# Altium schematic symbol library Mezeq_Connectors.SchLib: 39 symbols
Pins are listed as number, name and electrical type; pins without a type are passive.

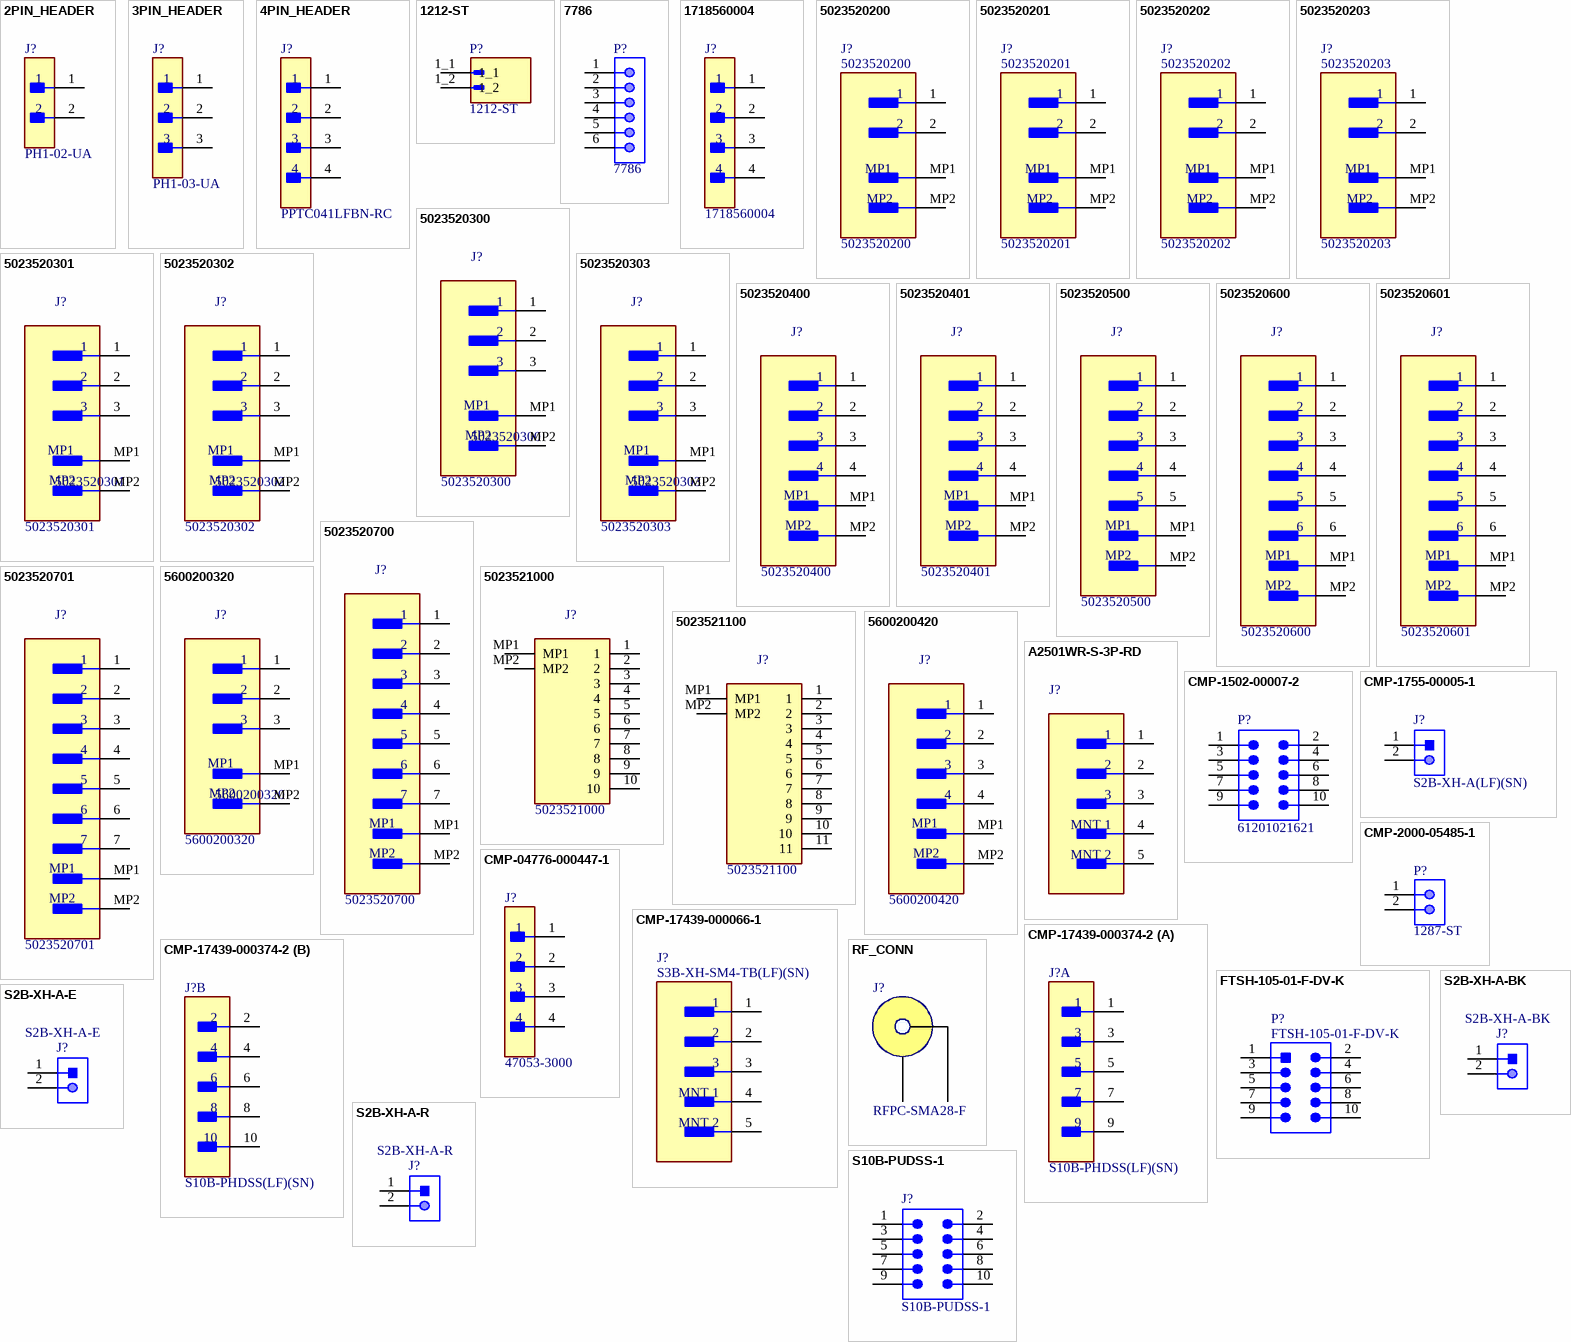
[diagram p0: symbols 2PIN_HEADER to S10B-PUDSS-1]

## 2PIN_HEADER
designator J?  Manufacturer Part Number 1: PH1-02-UA
CONN HEADER VERT 2POS 2.54MM; Manufacturer 1: Adam Tech; Supplier 1: Digikey; Supplier Part Number 1: 2057-PH1-02-UA-ND
footprint CONN_PH1-02-UA_ADM (CONN HEADER VERT 2POS 2.54MM)
pins: 1, 2

## 3PIN_HEADER
designator J?  Manufacturer Part Number 1: PH1-03-UA
CONN HEADER VERT 3POS 2.54MM; Manufacturer 1: Adam Tech; Supplier 1: Digikey; Supplier Part Number 1: 2057-PH1-03-UA-ND
footprint CONN_PH1-03-UA_ADM (CONN HEADER VERT 3POS 2.54MM)
pins: 1, 2, 3

## 4PIN_HEADER
designator J?  Manufacturer Part Number 1: PPTC041LFBN-RC
CONN HDR 4POS 0.1 TIN PCB 2.54MM FEMALE; Manufacturer 1: Sullins Connector Solutions; Supplier 1: Digikey; Supplier Part Number 1: S7002-ND
footprint SULLINS_PPTC041LFBN-RC
pins: 1, 2, 3, 4

## 1212-ST
designator P?
0.187" (4.75mm) Quick Connect Male Solder Connector Non-Insulated; Manufacturer 1: Keystone Electronics; Manufacturer Part Number 1: 1212-ST; Supplier 1: Digikey; Supplier Part Number 1: 36-1212-ST-ND; Silkscreen: *
footprint KEYSTONE_1212-ST
pins: 1_1, 1_2

## 7786
designator P?
Terminals 30 AMP SCRW TERMINAL; Manufacturer 1: Keystone Electronics; Supplier 1: Mouser; Supplier Part Number 1: 534-7786; Manufacturer Part Number 1: 7786
footprint 7786
pins: 1, 2, 3, 4, 5, 6

## 1718560004
designator J?
Connector Header Through Hole 4 position 0.100" (2.54mm); Manufacturer 1: Molex; Glow Wire Compliant: Non-compliant; Voltage Rating: 250V; Current Rating: 4A; Number of Circuits: 4; Gender: Male; Orientation: Straight; Packaging: Bulk; RoHS Compliant: Yes; Termination: Through Hole; Contact Plating: Tin; Mount: Through Hole; Number of Rows: 1; Pitch: 2.54mm; Halogen Free: Low Halogen; Number of Contacts: 4; Min Operating Temperature: 0°C; Package Quantity: 12000; Contact Material: Copper Alloy; Max Operating Temperature: 75°C; REACH SVHC: No SVHC; Number of Positions: 4; Manufacturer Part Number 1: 1718560004; Supplier 1: Digikey; Supplier Part Number 1: WM10155-ND; Manufacturer 2: Molex; Manufacturer Part Number 2: 47053-3000; Supplier 2: Digikey; Supplier Part Number 2: WM9797-ND
footprint 1718560004 (CONN HEADER VERT 4POS 2.54MM)
pins: 1, 2, 3, 4

## 5023520200
designator J?
CONN HEADER SMD R/A 2POS 2MM; Manufacturer 1: Molex; Supplier 1: Digikey; Supplier Part Number 1: WM7169CT-ND; Manufacturer Part Number 1: 5023520200
footprint 5023520200
pins: 1, 2, MP1, MP2

## 5023520201
designator J?
CONN HEADER SMD R/A 2POS 2MM; Manufacturer 1: Molex; Supplier 1: Digikey; Supplier Part Number 1: WM16210CT-ND; Manufacturer Part Number 1: 5023520201
footprint 5023520201
pins: 1, 2, MP1, MP2

## 5023520202
designator J?
CONN HEADER SMD R/A 2POS 2MM; Manufacturer 1: Molex; Supplier 1: Digikey; Supplier Part Number 1: 900-5023520202CT-ND; Manufacturer Part Number 1: 5023520202
footprint 5023520202
pins: 1, 2, MP1, MP2

## 5023520203
designator J?
CONN HEADER SMD R/A 2POS 2MM; Manufacturer 1: Molex; Supplier 1: Digikey; Supplier Part Number 1: 900-5023520203CT-ND; Manufacturer Part Number 1: 5023520203
footprint 5023520203
pins: 1, 2, MP1, MP2

## 5023520300
designator J?
CONN HEADER SMD R/A 3POS 2MM; Manufacturer 1: Molex; Supplier Part Number 1: WM10858CT-ND; Supplier 1: Digikey; Manufacturer Part Number 1: 5023520300
footprint 5023520300
pins: 1, 2, 3, MP1, MP2 MNT 2

## 5023520301
designator J?
CONN HEADER SMD R/A 3POS 2MM; Manufacturer 1: Molex; Supplier Part Number 1: WM20789CT-ND; Supplier 1: Digikey; Manufacturer Part Number 1: 5023520301
footprint 5023520301
pins: 1, 2, 3, MP1, MP2 MNT 2

## 5023520302
designator J?
CONN HEADER SMD R/A 3POS 2MM; Manufacturer 1: Molex; Supplier Part Number 1: 2266-5023520302-23-ND; Supplier 1: Digikey; Manufacturer Part Number 1: 5023520302
footprint 5023520302
pins: 1, 2, 3, MP1, MP2 MNT 2

## 5023520303
designator J?
CONN HEADER SMD R/A 3POS 2MM; Manufacturer 1: Molex; Supplier Part Number 1: 5023520303-ND; Supplier 1: Digikey; Manufacturer Part Number 1: 5023520303
footprint 5023520303
pins: 1, 2, 3, MP1, MP2 MNT 2

## 5023520400
designator J?
CONN HEADER SMD R/A 4POS 2MM; Manufacturer 1: Molex; Supplier Part Number 1: WM7171CT-ND; Supplier 1: Digikey; Manufacturer Part Number 1: 5023520400
footprint 5023520400 (CONN HEADER SMD R/A 4POS 2MM)
pins: 1, 2, 3, 4, MP1, MP2 MNT 2

## 5023520401
designator J?
CONN HEADER SMD R/A 4POS 2MM; Manufacturer 1: Molex; Supplier Part Number 1: WM24244CT-ND; Supplier 1: Digikey; Manufacturer Part Number 1: 5023520401
footprint 5023520401 (CONN HEADER SMD R/A 4POS 2MM)
pins: 1, 2, 3, 4, MP1, MP2 MNT 2

## 5023520500
designator J?
CONN HEADER SMD R/A 5POS 2MM; Manufacturer 1: Molex; Supplier Part Number 1: WM14453CT-ND; Supplier 1: Digikey; Manufacturer Part Number 1: 5023520500
footprint 5023520500
pins: 1, 2, 3, 4, 5, MP1, MP2 MNT 2

## 5023520600
designator J?
CONN HEADER SMD R/A 6POS 2MM; Manufacturer 1: Molex; Supplier Part Number 1: WM7173CT-ND; Supplier 1: Digikey; Manufacturer Part Number 1: 5023520600
footprint 5023520600
pins: 1, 2, 3, 4, 5, 6, MP1, MP2 MNT 2

## 5023520601
designator J?
CONN HEADER SMD R/A 6POS 2MM; Manufacturer 1: Molex; Supplier Part Number 1: WM20793CT-ND; Supplier 1: Digikey; Manufacturer Part Number 1: 5023520601
footprint 5023520601
pins: 1, 2, 3, 4, 5, 6, MP1, MP2 MNT 2

## 5023520700
designator J?
CONN HEADER SMD R/A 7POS 2MM; Manufacturer 1: Molex; Supplier Part Number 1: WM14455CT-ND; Supplier 1: Digikey; Manufacturer Part Number 1: 5023520700
footprint 5023520700
pins: 1, 2, 3, 4, 5, 6, 7, MP1, MP2 MNT 2

## 5023520701
designator J?
CONN HEADER SMD R/A 7POS 2MM; Manufacturer 1: Molex; Supplier Part Number 1: WM24246CT-ND; Supplier 1: Digikey; Manufacturer Part Number 1: 5023520701
footprint 5023520701
pins: 1, 2, 3, 4, 5, 6, 7, MP1, MP2 MNT 2

## 5023521000
designator J?
CONN HEADER SMD R/A 10POS 2MM; Manufacturer 1: Molex; Supplier Part Number 1: WM17093CT-ND; Supplier 1: Digikey; Manufacturer Part Number 1: 5023521000
footprint 5023521000
pins: 1, 2, 3, 4, 5, 6, 7, 8, 9, 10, MP1, MP2

## 5023521100
designator J?
CONN HEADER SMD R/A 11POS 2MM; Manufacturer 1: Molex; Supplier Part Number 1: WM24250CT-ND; Supplier 1: Digikey; Manufacturer Part Number 1: 5023521100
footprint 5023521100 (CONN HEADER SMD R/A 11POS 2MM)
pins: 1, 2, 3, 4, 5, 6, 7, 8, 9, 10, 11, MP1, MP2

## 5600200320
designator J?
CONN HEADER SMD 3POS 2MM; Manufacturer 1: Molex; Supplier Part Number 1: WM10863CT-ND; Supplier 1: Digikey; Manufacturer Part Number 1: 5600200320
footprint 5600200320 (CONN HEADER SMD 3POS 2MM)
pins: 1, 2, 3, MP1, MP2 MNT 2

## 5600200420
designator J?
CONN HEADER SMD 4POS 2MM; Manufacturer 1: Molex; Supplier Part Number 1: WM10864CT-ND; Supplier 1: Digikey; Manufacturer Part Number 1: 5600200420
footprint 5600200420 (CONN HEADER SMD 4POS 2MM)
pins: 1, 2, 3, 4, MP1, MP2 MNT 2

## A2501WR-S-3P-RD
designator J?
Connector Header Surface Mount, Right Angle 3 position 0.098" (2.50mm); Manufacturer 1: CJT; Manufacturer Part Number 1: A2501WR-S-3P-RD; Number of Positions: 3; Max Current Rating: 3A; Pitch: 2.5mm; Gender: Male; Max Voltage Rating (AC): 250V; Contact Resistance: 20mR; Connector Type: Male Pin; Max Operating Temperature: 85°C; Orientation: Right Angle; Series: XH; Number of Rows: 1; Housing Material: Polyamide; Packaging: Tape and Reel; Number of Contacts: 3; REACH SVHC: No SVHC; Mount: Surface Mount; Contact Material: Copper Alloy; Package Quantity: 1; Min Operating Temperature: -25°C; Termination: Solder; Fastening Type: Detent; Lead Free: Lead Free; Length: 12.5mm; Depth: 10mm; Contact Plating: Tin; Contact Type: Male Pin; Manufacturer 2: JST Sales America Inc.; Manufacturer Part Number 2: S3B-XH-SM4-TB(LF)(SN); Supplier 2: Digikey; Supplier Part Number 2: 455-S3B-XH-SM4-TBCT-ND; Supplier 1: CJT; Supplier Part Number 1: A2501WR-S-3P-RD
footprint A2501WR-S-3P-RD_RED (CONN HEADER SMD R/A 3POS 2.5MM)
pins: 1, 2, 3, 4 MNT 1, 5 MNT 2

## CMP-1502-00007-2
designator P?, comment 61201021621
Connector Header Through Hole 10 position 0.100" (2.54mm); NexarPartId: 8917783; Manufacturer 1: Würth Elektronik; Number of Contacts: 10; Voltage Rating (DC): 250V; Insulation Resistance: 1GΩ; Current Rating: 3A; Contact Resistance: 20mΩ; Connector Type: Male Pin; Gender: Male; Flammability Rating: UL94 V-0; Termination: Solder; Width: 20.36mm; Length: 20.36mm; Housing Material: PBT; Operating Supply Voltage: 250V; Min Operating Temperature: -40°C; Lead Free: Lead Free; Insulation Material: PBT; Orientation: Vertical; Row Spacing: 2.54mm; RoHS: Compliant; Voltage Rating: 250V; Number of Pins: 10; Height: 8.85mm; REACH SVHC: Unknown; Contact Material: Copper; Contact Gender: Male; Color: Black; Mount: Through Hole; Contact Plating: Gold; Lead Pitch: 2.54mm; Number of Positions: 10; Pitch: 2.54mm; Max Operating Temperature: 105°C; Number of Rows: 2; Manufacturer Part Number 1: 61201021621; Supplier 1: Digikey; Supplier Part Number 1: 732-2094-ND
footprint 61201021621 (WR-BHD Straight Male, Box Header, Through Hole, 2 Rows, 10 Contacts, 2.54mm Pitch)
pins: 1, 2, 3, 4, 5, 6, 7, 8, 9, 10

## CMP-1755-00005-1
designator J?, comment S2B-XH-A(LF)(SN)
Male Header, Pitch 2.5 mm, 1 x 2 Position, Height 6.1 mm, Tail Length 3.4 mm, -25 to 85 degC, RoHS, Bulk; Manufacturer 1: JST Sales America Inc.; Type (Capacitors): X7R; Voltage Rating (DC): 100 V; Tolerance: 10%; Capacitance: 1 nF; Case\Package: Radial; Min Operating Temperature: -55 degC; Mount: Through Hole; Package Quantity: 500; PackageReference: S2B-XH-A(LF)(SN); ComponentLink1Description: Manufacturer URL; Max Operating Temperature: 125 degC; ComponentLink2Description: Datasheet; RoHSCompliant: true; PackageDescription: Male Header, Pitch 2.5 mm, 1 x 2 Position, Height 6.1 mm, Tail Length 3.4 mm; REACH SVHC: No SVHC; Packaging: Bulk; Width: 3.81 mm; Length: 5.33 mm; Height: 2.54 mm; Pins: 2; Radiation Hardening: No; ComponentLink1URL: http://www.jst.com/home2.html; Lead Pitch: 2.54 mm; DatasheetVersion: May-16; Voltage Rating: 100 V; ComponentLink2URL: http://www.jst-mfg.com/product/pdf/eng/eXH.pdf; Manufacturer Part Number 1: S2B-XH-A(LF)(SN); Supplier 1: Digikey; Supplier Part Number 1: 455-S2B-XH-A-ND
footprint JST-S2B-XH-A(LF)(SN)_V (Header, 2-Leads, Body 7.4x11.5mm, Pitch 2.5mm)
pins: 1, 2

## CMP-2000-05485-1
designator P?, comment 1287-ST
0.250" (6.35mm) Quick Connect Male Solder Connector Non-Insulated; Manufacturer: Keystone; Manufacturer 1: Keystone Electronics; Angle: Straight; Material, Contact: Brass; Tab Fit: 0.25; Finish Plating: TinPlate; Mounting Hole Size: 0.052; Finish: Tin; Primary Type: QuickDisconnect; Standards: ULListed; Contact Plating: Tin; Datasheet Version: Rev. C, 08/2012; Package URL: http://www.keyelco.com/product-pdf.cfm?p=1859; Length, Overall: 0.552"; Terminal Style: PCBMale; Mounting: VERTICAL; Insulation Type: Non-Insulated; Gender: Male; Package Description: 2-Leads Quick-Fit Terminal, Pitch 5.08 mm; Type: Tab; Manufacturer URL: http://www.keyelco.com/; Terminal Type: Quick-Fit; Orientation: VERTICAL-Sturdi-Mount; Material: .032[.81]Brass; Diameter, Hole: 0.052in.; Mounting Technology: ThroughHole; Datasheet URL: http://www.keyelco.com/product-pdf.cfm?p=1859; Width, Overall: 0.312"; Termination: Solder; Package Reference: 1287-ST; Mount Angle: Straight; Manufacturer Part Number 1: 1287-ST; Supplier 1: Digikey; Supplier Part Number 1: 36-1287-ST-ND
footprint KSTN-1287-ST (FIT, 2-Leads, Pitch 5.08mm, Male)
pins: 1, 2

## CMP-04776-000447-1
designator J?, comment 47053-3000
Connector Header Through Hole 4 position 0.100" (2.54mm); Manufacturer 1: Molex; Glow Wire Compliant: Non-compliant; Voltage Rating: 250V; Current Rating: 4A; Number of Circuits: 4; Gender: Male; Orientation: Straight; Packaging: Bulk; Series: 47053; RoHS Compliant: Yes; Termination: Through Hole; Contact Plating: Tin; Mount: Through Hole; Number of Rows: 1; Pitch: 2.54mm; Halogen Free: Low Halogen; Number of Contacts: 4; Min Operating Temperature: 0°C; Package Quantity: 12000; Contact Material: Copper Alloy; Max Operating Temperature: 75°C; REACH SVHC: No SVHC; Number of Positions: 4; Manufacturer Part Number 1: 47053-3000; Supplier 1: Digikey; Supplier Part Number 1: WM9797-ND
footprint FP-47053-3000-MFG
pins: 1, 2, 3, 4

## CMP-17439-000066-1
designator J?, comment S3B-XH-SM4-TB(LF)(SN)
Connector Header Surface Mount, Right Angle 3 position 0.098" (2.50mm); Manufacturer 1: JST Sales America Inc.; Number of Positions: 3; Max Current Rating: 3A; Pitch: 2.5mm; Gender: Male; Max Voltage Rating (AC): 250V; Contact Resistance: 20mR; Connector Type: Male Pin; Max Operating Temperature: 85°C; Orientation: Right Angle; Series: XH; Number of Rows: 1; Housing Material: Polyamide; Packaging: Tape and Reel; Number of Contacts: 3; REACH SVHC: No SVHC; Housing Color: Beige; Mount: Surface Mount; Contact Material: Copper Alloy; Package Quantity: 1; Color: Natural; Min Operating Temperature: -25°C; Termination: Solder; Fastening Type: Detent; Lead Free: Lead Free; Length: 12.5mm; Depth: 10mm; Contact Plating: Tin; Contact Type: Male Pin; Manufacturer Part Number 1: S3B-XH-SM4-TB(LF)(SN); Supplier 1: Digikey; Supplier Part Number 1: 455-S3B-XH-SM4-TBCT-ND
footprint FP-S3B-XH-SM4-TB_LF_SN-MFG
pins: 1, 2, 3, 4 MNT 1, 5 MNT 2

## CMP-17439-000374-2
designator J?, comment S10B-PHDSS(LF)(SN)
Connector Header Through Hole, Right Angle 10 position 0.079" (2.00mm); Manufacturer 1: JST Sales America Inc.; Pitch: 2mm; Number of Contacts: 10; Row Spacing: 0.079inch; Voltage Rating: 250V; Current Rating: 3A; Gender: Male; Contact Resistance: 20mR; Mount: Through Hole; Packaging: Bulk; Number of Rows: 2; Series: PHD; Depth: 9.5mm; Max Operating Temperature: 85°C; Number of Positions: 10; Connector Type: Header; Contact Plating: Copper; Contact Finish - Mating: TIN; Insulation Material: Nylon; Width: 5mm; Housing Color: Beige; Min Operating Temperature: -25°C; Flammability Rating: UL94 V-0; Termination: Solder; Contact Shape: Square; Color: Natural; Housing Material: Polyamide; Insulation Color: Natural; Contact Mating Length: 0.114inch; Length: 11.9mm; Height: 9.5mm; Lead Free: Lead Free; Contact Material: Copper Alloy; Orientation: Right Angle; Max Voltage Rating (AC): 250V; Contact Type: Male Pin; Max Current Rating: 3A; Fastening Type: Detent; Manufacturer Part Number 1: S10B-PHDSS(LF)(SN); Supplier 1: Digikey; Supplier Part Number 1: 455-S10B-PHDSS-ND
footprint FP-S10B-PHDSS_LF_SN-MFG
part A pins: 1, 3, 5, 7, 9
part B pins: 2, 4, 6, 8, 10

## FTSH-105-01-F-DV-K
designator P?
Connector Header Surface Mount 10 position 0.050" (1.27mm); Manufacturer 1: Samtec Inc.; Manufacturer Part Number 1: FTSH-105-01-F-DV-K; Supplier 1: Digikey; Supplier Part Number 1: SAM8796-ND
footprint SMTC-FTSH-105-01-L-DV-K_V (CONN, 10-Leads, Body 6.35x3.43mm, Pitch 1.27mm)
pins: 1, 2, 3, 4, 5, 6, 7, 8, 9, 10

## RF_CONN
designator J?, comment RFPC-SMA28-F
SMA VERTICAL PCB JACK; Manufacturer 1: GCT; Manufacturer Part Number 1: RFPC-SMA28-F; Supplier 1: Digikey; Supplier Part Number 1: 2073-RFPC-SMA28-F-ND
footprint CONN_SMA_JACK (CONN SMA RCPT STR 50 OHM PCB)
pins: 1 GND, 2 RF

## S2B-XH-A-BK
designator J?  Manufacturer Part Number 1: S2B-XH-A-BK
Male Header, Pitch 2.5 mm, 1 x 2 Position, Height 6.1 mm, Tail Length 3.4 mm, -25 to 85 degC, RoHS, Bulk; Manufacturer 1: JST Sales America Inc.; Voltage Rating (DC): 100 V; Tolerance: 10%; Case\Package: Radial; Min Operating Temperature: -55 degC; Mount: Through Hole; Package Quantity: 500; Max Operating Temperature: 125 degC; RoHSCompliant: true; REACH SVHC: No SVHC; Packaging: Bulk; Width: 3.81 mm; Length: 5.33 mm; Height: 2.54 mm; Pins: 2; Radiation Hardening: No; Lead Pitch: 2.54 mm; Voltage Rating: 100 V; Manufacturer 2: JST Sales America Inc.; Manufacturer Part Number 2: S2B-XH-A(LF)(SN); Manufacturer 3: CJT; Manufacturer Part Number 3: A2501WR-2P-BK
footprint JST-S2B-XH-ABK_BLACK (Header, 2-Leads, Body 7.4x11.5mm, Pitch 2.5mm, BLACK)
pins: 1, 2

## S2B-XH-A-E
designator J?  Manufacturer Part Number 1: S2B-XH-A-E
Male Header, Pitch 2.5 mm, 1 x 2 Position, Height 6.1 mm, Tail Length 3.4 mm, -25 to 85 degC, RoHS, Bulk; Manufacturer 1: JST Sales America Inc.; Voltage Rating (DC): 100 V; Tolerance: 10%; Case\Package: Radial; Min Operating Temperature: -55 degC; Mount: Through Hole; Package Quantity: 500; Max Operating Temperature: 125 degC; RoHSCompliant: true; REACH SVHC: No SVHC; Packaging: Bulk; Width: 3.81 mm; Length: 5.33 mm; Height: 2.54 mm; Pins: 2; Radiation Hardening: No; Lead Pitch: 2.54 mm; Voltage Rating: 100 V; Manufacturer 2: JST Sales America Inc.; Manufacturer Part Number 2: S2B-XH-A(LF)(SN); Manufacturer 3: CJT; Manufacturer Part Number 3: A2501WR-2P-BL
footprint JST-S2B-XH-AE_BLUE (Header, 2-Leads, Body 7.4x11.5mm, Pitch 2.5mm, BLUE)
pins: 1, 2

## S2B-XH-A-R
designator J?  Manufacturer Part Number 1: S2B-XH-A-R
Male Header, Pitch 2.5 mm, 1 x 2 Position, Height 6.1 mm, Tail Length 3.4 mm, -25 to 85 degC, RoHS, Bulk; Manufacturer 1: JST Sales America Inc.; Voltage Rating (DC): 100 V; Tolerance: 10%; Case\Package: Radial; Min Operating Temperature: -55 degC; Mount: Through Hole; Package Quantity: 500; Max Operating Temperature: 125 degC; RoHSCompliant: true; REACH SVHC: No SVHC; Packaging: Bulk; Width: 3.81 mm; Length: 5.33 mm; Height: 2.54 mm; Pins: 2; Radiation Hardening: No; Lead Pitch: 2.54 mm; Voltage Rating: 100 V; Manufacturer 2: JST Sales America Inc.; Manufacturer Part Number 2: S2B-XH-A(LF)(SN); Manufacturer 3: CJT; Manufacturer Part Number 3: A2501WR-2P-RD
footprint JST-S2B-XH-AR_RED (Header, 2-Leads, Body 7.4x11.5mm, Pitch 2.5mm, RED)
pins: 1, 2

## S10B-PUDSS-1
designator J?
Connector Header Through Hole, Right Angle 10 position 0.079" (2.00mm); Manufacturer 1: JST Sales America Inc.; Manufacturer Part Number 1: S10B-PUDSS-1(LF)(SN); Supplier 1: Digikey; Supplier Part Number 1: 455-S10B-PUDSS-1-ND
footprint CONN_S10B-PUDSS-1_JST
pins: 1, 2, 3, 4, 5, 6, 7, 8, 9, 10

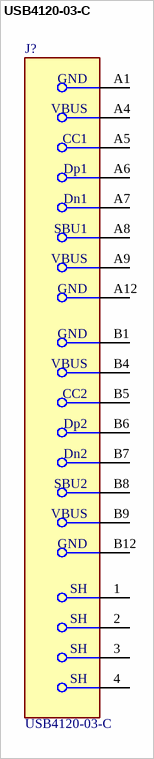
[diagram p1: symbol USB4120-03-C]

## USB4120-03-C
designator J?
USB-C (USB TYPE-C) USB 2.0 Receptacle Connector 24 (16+8 Dummy) Position Surface Mount, Through Hole; Manufacturer 1: GCT; Manufacturer Part Number 1: USB4120-03-C; Supplier 1: Digikey; Supplier Part Number 1: 2073-USB4120-03-CDKR-ND
footprint FP-USB4120-03-C-MFG (16 Position 48 VDC USB Type C Vertical USB 2.0 Receptacle Connector)
pins: 1 SH (power), 2 SH (power), 3 SH (power), 4 SH (power), A1 GND (power), A4 VBUS (power), A5 CC1, A6 Dp1, A7 Dn1, A8 SBU1, A9 VBUS (power), A12 GND (power), B1 GND (power), B4 VBUS (power), B5 CC2, B6 Dp2, B7 Dn2, B8 SBU2, B9 VBUS (power), B12 GND (power)